# EAGLE library part ALPS_EC11EBB24C03 (library Upverter Library)
Compact and highly reliable type available in many varieties
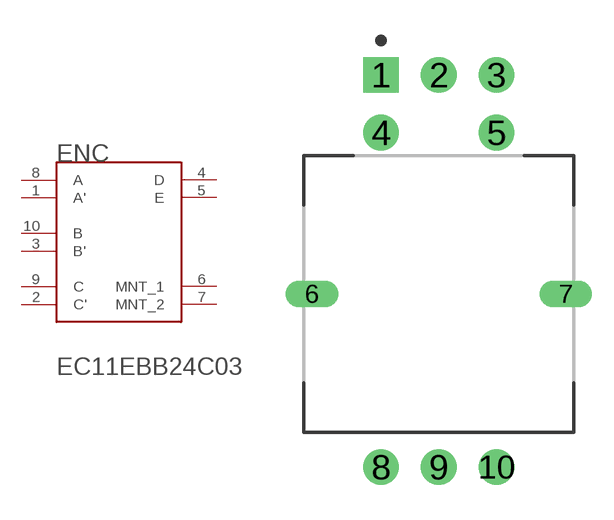
[diagram p0: symbol with the pads of ALPS_EC11EBB24C03_0; footprint ALPS_EC11EBB24C03_0]

Designator prefix ENC

## ALPS_EC11EBB24C03ALPS_EC11EBB24C03_0_0 (MF: ALPS; MPN: EC11EBB24C03; Mounting_Style: PCB Mount; Number_of_Channels: 2 Channel; Number_of_Detents: 30 Detent; Operating_life_(cycles): 15000; Output_Type: Quadrature; Rating: 10mA 5VDC; Resolution: 15 PPR; Technology: Rotary; Termination_Style: Through Hole; Type: Incremental; centroid_not_specified: No; datasheet: http://www.alps.com/prod/info/E/HTML/Encoder/Incremental/EC11/EC11EBB24C03.html; digikey_description: ENC; lead_free: yes; mouser_part_number: 688-EC11EBB24C03; package: ENCODER_PTH_11MM7X12MM0; prefix: ENC; rohs: yes; temperature_range_high: +85°C; temperature_range_low: -40°C)  [ALPS_EC11EBB24C03_0]
1  A'
2  C'
3  B'
4  D
5  E
6  MNT_1
7  MNT_2
8  A
9  C
10  B

## Footprint ALPS_EC11EBB24C03_0 (pad centres in mm)
Compact and highly reliable type available in many varieties
drill 1 pad 1.55 square: 1 -2.5,9.5
drill 1 pad 1.55 round: 2 0,9.5; 3 2.5,9.5; 4 -2.5,7; 5 2.5,7; 8 -2.5,-7.5; 9 0,-7.5; 10 2.5,-7.5
drill 0.635 pad 1.067 long: 6 -5.5,0; 7 5.5,0